# Altium schematic symbol library CP1-12V.SchLib: 1 symbol
Pins are listed as number, name and electrical type; pins without a type are passive.

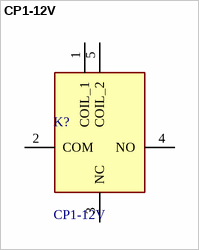
[diagram p0: symbol CP1-12V]

## CP1-12V
designator K?
PANASONIC ELECTRIC WORKS - CP1-12V - RELAY, AUTOMOTIVE, SPDT, 14VDC, 20A; Geometry.Height: 9.5mm; Mouser Part Number: 769-CP1-12V; Mouser Price/Stock: https://www.mouser.co.uk/ProductDetail/Panasonic-Industrial-Devices/CP1-12V?qs=mTeSeKeuVA7dPPafy7M16g%3D%3D; Manufacturer_Name: Panasonic; Manufacturer_Part_Number: CP1-12V; Datasheet Link: https://www3.panasonic.biz/ac/e/uacs/download/index.jsp?c=vehicle_download
footprint CP112V
pins: 1 COIL_1, 2 COM, 3 NC, 4 NO, 5 COIL_2